# Altium schematic symbol library Schlib1.SchLib: 1 symbol
Pins are listed as number, name and electrical type; pins without a type are passive.

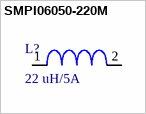
[diagram p0: symbol SMPI06050-220M]

## SMPI06050-220M
designator L?, comment 22 uH/5A
INDUCTOR POWER 22UH 7.7X6.6MM SMD
footprint SMPI06050-220M (INDUCTOR POWER 22UH 7.7X6.6MM SMD)
pins: 1, 2